# EAGLE library part TERMINAL_6P (library Eagle CMR)
P=5.0mm Screw terminal 6P
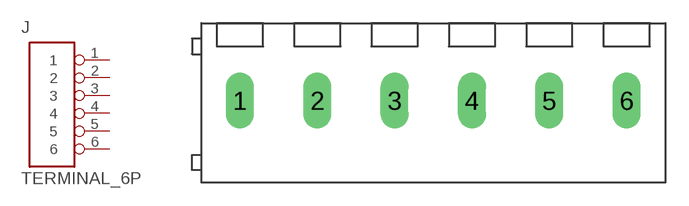
[diagram p12: symbol with the pads of WJ128V-5.0-6P; footprint WJ128V-5.0-6P]

Designator prefix J

## TERMINAL_6P (LCSC#: C192771; LCSC_LINK: https://lcsc.com/product-detail/Pluggable-System-Terminal-Block_Ningbo-Kangnex-Elec-WJ128V-6P-5-0-14-00A_C192771.html; MANUFACTURER: Ningbo Kangnex Elec; MFR#: WJ128V-5.0-6P)  [WJ128V-5.0-6P]
1  1
2  2
3  3
4  4
5  5
6  6

## Footprint WJ128V-5.0-6P (pad centres in mm)
drill 1.2 long: 1 -12.5,0; 2 -7.5,0; 3 -2.5,0; 4 2.5,0; 5 7.5,0; 6 12.5,0